# EAGLE library part MAX_485_DEV (library Blizzard_Library)
MAX 485 PN: MAX485CSA+-ND
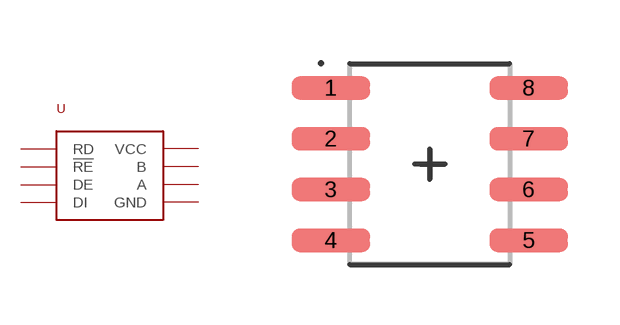
[diagram p21: symbol with the pads of SOIC127P600X175-8; footprint SOIC127P600X175-8]

Designator prefix U

## MAX_485_DEV3D (PN: MAX485EESA+TCT-ND)  [SOIC127P600X175-8]
1  RD
2  !RE
3  DE
4  DI
5  GND
6  A
7  B
8  VCC

## Footprint SOIC127P600X175-8 (pad centres in mm)
8-SOIC, 1.27 mm pitch, 6 mm span, 4.9 X 3.9 X 1.75 mm body 8-pin SOIC package with 1.27 mm pitch, 6 mm span with body size 4.9 X 3.9 X 1.75 mm
smd 1.968 x 0.589: 1 -2.473,1.905; 2 -2.473,0.635; 3 -2.473,-0.635; 4 -2.473,-1.905; 5 2.473,-1.905; 6 2.473,-0.635; 7 2.473,0.635; 8 2.473,1.905